# EAGLE library part MSP-EXP430G2-SHELL (library Modules)
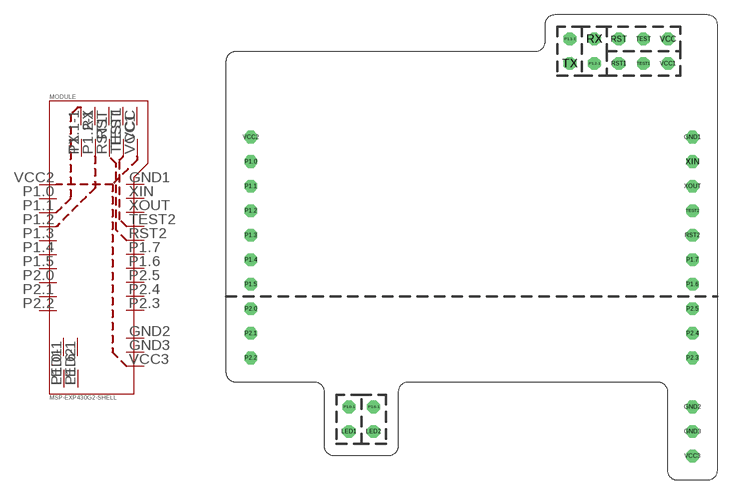
[diagram p0: symbol with the pads of MSP-EXP430G2-SHELL; footprint MSP-EXP430G2-SHELL]

Designator prefix MODULE

## MSP-EXP430G2-SHELL  [MSP-EXP430G2-SHELL]
GND1  GND1  pas
GND2  GND2  pas
GND3  GND3  pas
LED1  LED0  pas
LED2  LED1  pas
P1.0  P1.0  pas
P1.0-1  P1.0-1  pas
P1.1  P1.1  pas
P1.1-1  P1.1-1  pas
P1.2  P1.2  pas
P1.2-1  P1.2-1  pas
P1.3  P1.3  pas
P1.4  P1.4  pas
P1.5  P1.5  pas
P1.6  P1.6  pas
P1.6-1  P1.6-1  pas
P1.7  P1.7  pas
P2.0  P2.0  pas
P2.1  P2.1  pas
P2.2  P2.2  pas
P2.3  P2.3  pas
P2.4  P2.4  pas
P2.5  P2.5  pas
RST  RST  pas
RST1  RST1  pas
RST2  RST2  pas
RX  RX  pas
TEST  TEST  pas
TEST1  TEST1  pas
TEST2  TEST2  pas
TX  TX  pas
VCC  VCC  pas
VCC1  VCC1  pas
VCC2  VCC2  pas
VCC3  VCC3  pas
XIN  XIN  pas
XOUT  XOUT  pas

## Footprint MSP-EXP430G2-SHELL (pad centres in mm)
drill 0.8 octagon: GND1 22.86,12.7; GND2 22.86,-15.24; GND3 22.86,-17.78; LED1 -12.7,-17.78; LED2 -10.16,-17.78; P1.0 -22.86,10.16; P1.0-1 -12.7,-15.24; P1.1 -22.86,7.62; P1.1-1 10.16,22.86; P1.2 -22.86,5.08; P1.2-1 12.7,20.32; P1.3 -22.86,2.54; P1.4 -22.86,0; P1.5 -22.86,-2.54; P1.6 22.86,-2.54; P1.6-1 -10.16,-15.24; P1.7 22.86,0; P2.0 -22.86,-5.08; P2.1 -22.86,-7.62; P2.2 -22.86,-10.16; P2.3 22.86,-10.16; P2.4 22.86,-7.62; P2.5 22.86,-5.08; RST 15.24,22.86; RST1 15.24,20.32; RST2 22.86,2.54; RX 12.7,22.86; TEST 17.78,22.86; TEST1 17.78,20.32; TEST2 22.86,5.08; TX 10.16,20.32; VCC 20.32,22.86; VCC1 20.32,20.32; VCC2 -22.86,12.7; VCC3 22.86,-20.32; XIN 22.86,10.16; XOUT 22.86,7.62